# Altium integrated library Extra-ECSESummer-Integrated.IntLib: 5 symbols
Pins are listed as number, name and electrical type; pins without a type are passive.

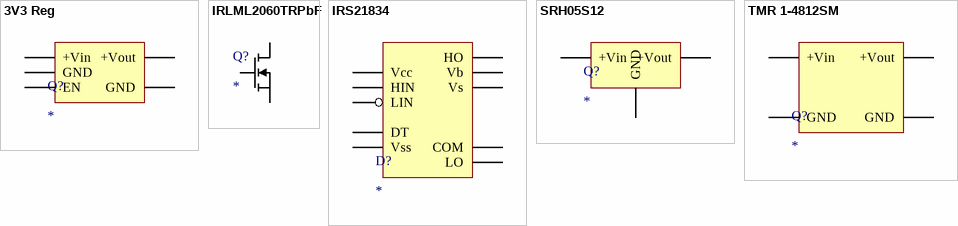
[diagram p0: symbols 3V3 Reg to TMR 1-4812SM]

## 3V3 Reg
designator Q?
footprint 3V3 (SOT23, 5-Leads, Body 2.96x2.83mm, Pitch 0.95mm, IPC Medium Density)
pins: 1 +Vin, 2 GND, 3 EN, 4 GND, 5 +Vout

## IRLML2060TRPbF
designator Q?
IRLML2060TRPbF N-Channel MOSFET; ComponentLink1Description: Datasheet; ComponentLink1URL: https://www.infineon.com/dgdl/irlml2060pbf.pdf?fileId=5546d462533600a401535664b7fb25ee
footprint IRLML2060TRPbF (IRLML2060TRPbF N-Channel MOSFET)
pins: 0 G, 1 D, 2 S

## IRS21834
designator D?
IRS21834 HALF-BRIDGE 600V FET DRIVER; ComponentLink1Description: Datasheet; ComponentLink1URL: https://www.infineon.com/dgdl/irs2183.pdf?fileId=5546d462533600a401535676d20c27d8
footprint IRS21834 (IRS21834 HALF-BRIDGE 600V FET DRIVER)
pins: 1 HIN, 2 LIN, 3 Vss, 4 DT, 5 COM, 6 LO, 7 Vcc, 11 Vs, 12 HO, 13 Vb

## SRH05S12
designator Q?
DC-DC Regulator 12V Out TH; ComponentLink1Description: Datasheet; ComponentLink1URL: https://www.xppower.com/portals/0/pdfs/SF_SRH05.pdf
footprint SRH05S12 (DC-DC Regulator 12V Out TH)
pins: 0 +Vin, 1 GND, 2 +Vout

## TMR 1-4812SM
designator Q?
DC-DC SM Regulator; ComponentLink1Description: Datasheet; ComponentLink1URL: https://www.tracopower.com/products/tmr1sm.pdf
footprint TMR 1-4812SM Footprint (Footprint for TMR 1-4812SM)
pins: 0 GND, 1 +Vin, 2 GND, 3 +Vout